# Altium schematic symbol library TLV74125PDBVR.SchLib: 1 symbol
Pins are listed as number, name and electrical type; pins without a type are passive.

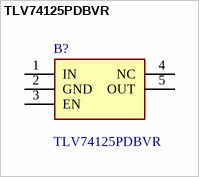
[diagram p0: symbol TLV74125PDBVR]

## TLV74125PDBVR
designator B?
150mA Low-Dropout (LDO) Regulator With Foldback Current Limit for Portable Devices; Manufacturer_Name: Texas Instruments; Geometry.Height: 1.45mm; Mouser Part Number: 595-TLV74125PDBVR; Mouser Price/Stock: https://www.mouser.co.uk/ProductDetail/Texas-Instruments/TLV74125PDBVR?qs=EU6FO9ffTwd5a1E68ueTZw%3D%3D; Manufacturer_Part_Number: TLV74125PDBVR; Datasheet Link: http://www.ti.com/lit/gpn/tlv741p
footprint SOT95P280X145-5N
pins: 1 IN, 2 GND, 3 EN, 4 NC, 5 OUT